# Altium schematic symbol library AT45DB041E.Schlib: 1 symbol
Pins are listed as number, name and electrical type; pins without a type are passive.

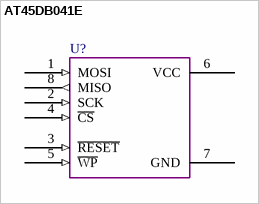
[diagram p0: symbol AT45DB041E]

## AT45DB041E
designator U?  (value not drawn)
pins: 1 MOSI (in), 2 SCK (in), 3 ~{RESET} (in), 4 ~{CS} (in), 5 ~{WP} (in), 6 VCC, 7 GND, 8 MISO (out)